# EAGLE library part OEM-III (library dragCustom)
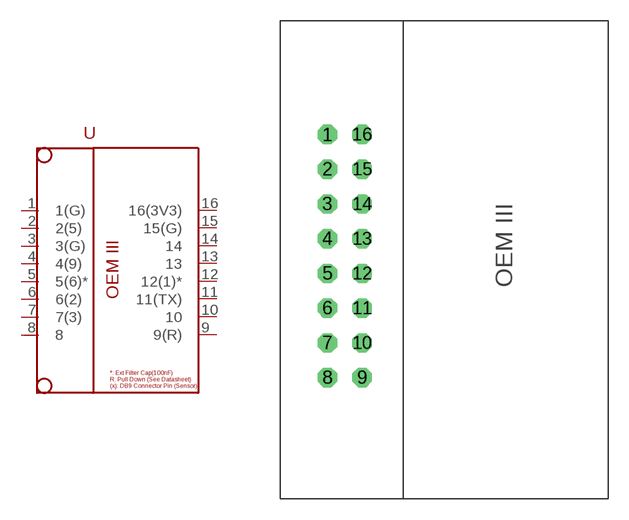
[diagram p15: symbol with the pads of OEM-III; footprint OEM-III]

Designator prefix -

## OEM-III  [OEM-III]
1  1(G)
2  2(5)
3  3(G)
4  4(9)
5  5(6)*
6  6(2)
7  7(3)
8  8
9  9(R)
10  10
11  11(TX)
12  12(1)*
13  13
14  14
15  15(G)
16  16(3V3)

## Footprint OEM-III (pad centres in mm)
drill 0.9 pad 1.422 octagon: 1 -2.54,10.16; 16 0,10.16
drill 0.9 octagon: 2 -2.54,7.62; 3 -2.54,5.08; 4 -2.54,2.54; 5 -2.54,0; 6 -2.54,-2.54; 7 -2.54,-5.08; 8 -2.54,-7.62; 9 0,-7.62; 10 0,-5.08; 11 0,-2.54; 12 0,0; 13 0,2.54; 14 0,5.08; 15 0,7.62